# EAGLE library part TELIC_H24 (library isystems)
Telit H24 HSPA Module Size: 24.4 x 45.2 x 5.4 mm (6.1mm stacking height) Mounting: two 2.4 mm holes Weight: < 10 grams Operating Voltage: 3.3V - 4.2V Current Consumption: < 1.5mA @DRX9 (Sleep Mode) TX Power: UMTS/HSPA – Class 3 (0.25 Watt) GSM 850/900 MHz – Class 4 (2Watt) GSM 1800/1900 MHz – Class 1 (1Watt) EDGE 850/900 MHz – Class E2 (0.5Watt) EDGE 1800/1900 MHz – Class E2 (0.4Watt)
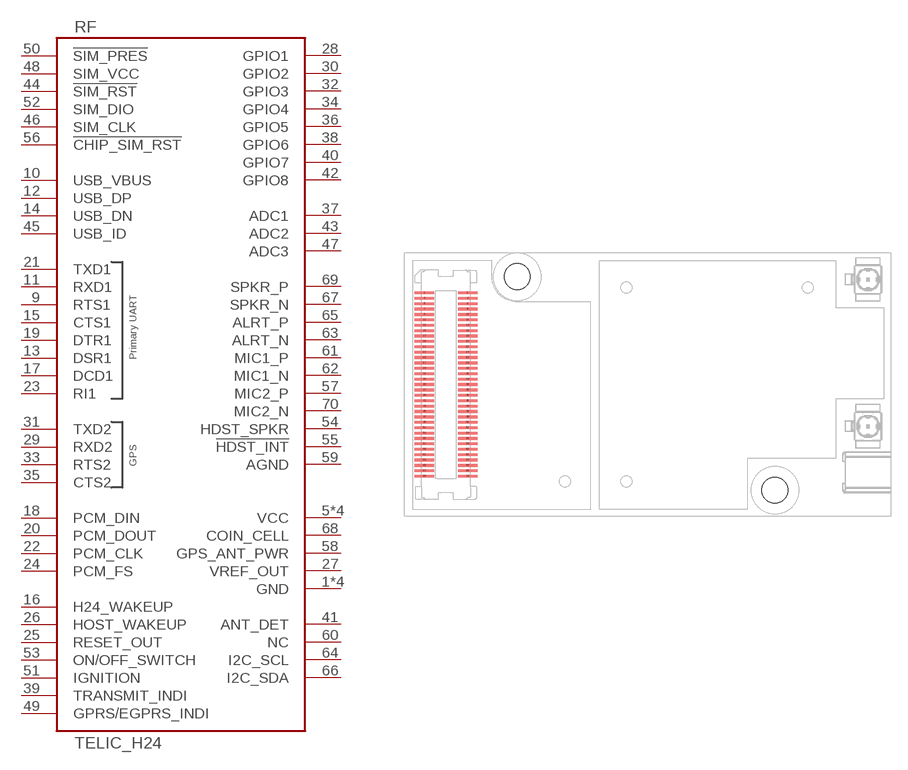
[diagram p0: symbol with the pads of TELIT_H24; footprint TELIT_H24]

Designator prefix RF

## TELIC_H24  [TELIT_H24]
1  GND  pwr
2  GND  pwr
3  GND  pwr
4  GND  pwr
5  VCC  pwr
6  VCC  pwr
7  VCC  pwr
8  VCC  pwr
9  RTS1  in
10  USB_VBUS  in
11  RXD1  out
12  USB_DP
13  DSR1  out
14  USB_DN
15  CTS1  out
16  H24_WAKEUP  in
17  DCD1  out
18  PCM_DIN  in
19  DTR1  in
20  PCM_DOUT  out
21  TXD1  in
22  PCM_CLK  out
23  RI1  out
24  PCM_FS  out
25  RESET_OUT  out
26  HOST_WAKEUP  out
27  VREF_OUT  pwr
28  GPIO1
29  RXD2  out
30  GPIO2
31  TXD2  in
32  GPIO3
33  RTS2  in
34  GPIO4
35  CTS2  out
36  GPIO5
37  ADC1  in
38  GPIO6
39  TRANSMIT_INDI  out
40  GPIO7
41  ANT_DET  nc
42  GPIO8
43  ADC2  in
44  !SIM_RST  out
45  USB_ID  nc
46  SIM_CLK  out
47  ADC3  in
48  SIM_VCC  out
49  GPRS/EGPRS_INDI  out
50  !SIM_PRES  in
51  IGNITION  in
52  SIM_DIO
53  ON/OFF_SWITCH  in
54  HDST_SPKR
55  !HDST_INT
56  !CHIP_SIM_RST  in
57  MIC2_P
58  GPS_ANT_PWR  nc
59  AGND
60  NC  nc
61  MIC1_P
62  MIC1_N
63  ALRT_N  out
64  I2C_SCL  nc
65  ALRT_P  out
66  I2C_SDA  nc
67  SPKR_N  out
68  COIN_CELL  pwr
69  SPKR_P  out
70  MIC2_N

## Footprint TELIT_H24 (pad centres in mm)
smd 1.8 x 0.25: 1 -2,8.5; 2 2,8.5; 3 -2,8; 4 2,8; 5 -2,7.5; 6 2,7.5; 7 -2,7; 8 2,7; 9 -2,6.5; 10 2,6.5; 11 -2,6; 12 2,6; 13 -2,5.5; 14 2,5.5; 15 -2,5; 16 2,5; 17 -2,4.5; 18 2,4.5; 19 -2,4; 20 2,4; 21 -2,3.5; 22 2,3.5; 23 -2,3; 24 2,3; 25 -2,2.5; 26 2,2.5; 27 -2,2; 28 2,2; 29 -2,1.5; 30 2,1.5; 31 -2,1; 32 2,1; 33 -2,0.5; 34 2,0.5; 35 -2,0; 36 2,0; 37 -2,-0.5; 38 2,-0.5; 39 -2,-1; 40 2,-1; 41 -2,-1.5; 42 2,-1.5; 43 -2,-2; 44 2,-2; 45 -2,-2.5; 46 2,-2.5; 47 -2,-3; 48 2,-3; 49 -2,-3.5; 50 2,-3.5; 51 -2,-4; 52 2,-4; 53 -2,-4.5; 54 2,-4.5; 55 -2,-5; 56 2,-5; 57 -2,-5.5; 58 2,-5.5; 59 -2,-6; 60 2,-6; 61 -2,-6.5; 62 2,-6.5; 63 -2,-7; 64 2,-7; 65 -2,-7.5; 66 2,-7.5; 67 -2,-8; 68 2,-8; 69 -2,-8.5; 70 2,-8.5
hole 2.4 at 6.6,10
hole 2.4 at 30.5,-9.8